# Altium schematic symbol library Schlib1.SchLib: 2 symbols
Pins are listed as number, name and electrical type; pins without a type are passive.

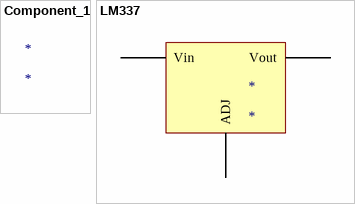
[diagram p0: symbols Component_1 to LM337]

## Component_1
designator *

## LM337
designator *
pins: 43 Vout, 44 Vin, ?1 ADJ